# Altium schematic symbol library Standard.SchLib: 33 symbols
Pins are listed as number, name and electrical type; pins without a type are passive.

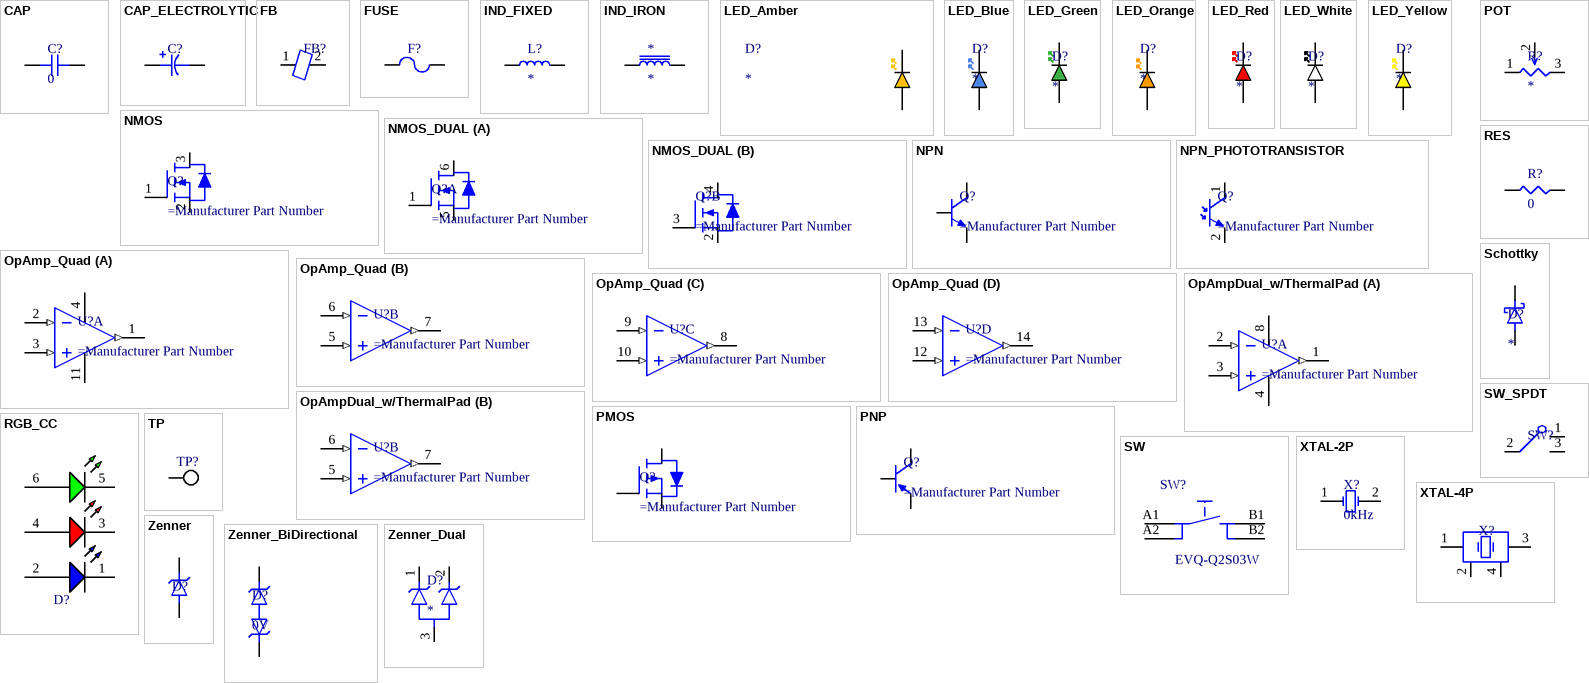
[diagram p0: symbols CAP to Zenner_Dual]

## CAP
designator C?, comment 0
Value: 0
pins: 1, 2

## CAP_ELECTROLYTIC
designator C?, comment 0  (value not drawn)
Value: 0
pins: 1, 2
text: +

## FB
designator FB?  (value not drawn)
pins: 1, 2

## FUSE
designator F?  (value not drawn)
pins: 1, 2

## IND_FIXED
designator L?
Value: *
pins: 1, 2

## IND_IRON
designator *
pins: 1, 2

## LED_Amber
designator D?
pins: 1 Cathode, 2 Anode

## LED_Blue
designator D?
pins: 1 Cathode, 2 Anode

## LED_Green
designator D?
pins: 1 Cathode, 2 Anode

## LED_Orange
designator D?
pins: 1 Cathode, 2 Anode

## LED_Red
designator D?
pins: 1 Cathode, 2 Anode

## LED_White
designator D?
pins: 1 Cathode, 2 Anode

## LED_Yellow
designator D?
pins: 1 Cathode, 2 Anode

## NMOS
designator Q?
pins: 1 Gate, 2 Source, 3 Drain
1 alternate drawing of the same symbol

## NMOS_DUAL
designator Q?
part A pins: 1 Gate, 5 Source, 6 Drain
part B pins: 2 Source, 3 Gate, 4 Drain
1 alternate drawing of the same symbol

## NPN
designator Q?
pins: 1 EMITTER, 2 BASE, 3 COLLECTOR

## NPN_PHOTOTRANSISTOR
designator Q?
pins: 1 COLLECTOR, 2 EMITTER

## OpAmp_Quad
designator U?
part A pins: 1 OUTA (out), 2 -INA (in), 3 +INA (in), 4 VDD (power), 11 VSS (power)
part B pins: 5 +INB (in), 6 -INB (in), 7 OUTB (out)
part C pins: 8 OUTB (out), 9 -INB (in), 10 +INB (in)
part D pins: 12 +INB (in), 13 -INB (in), 14 OUTB (out)
1 alternate drawing of the same symbol

## OpAmpDual_w/ThermalPad
designator U?
part A pins: 1 OUTA (out), 2 -INA (in), 3 +INA (in), 4 VSS (power), 8 VDD (power)
part B pins: 5 +INB (in), 6 -INB (in), 7 OUTB (out)
1 alternate drawing of the same symbol

## PMOS
designator Q?
pins: 1 Source, 2 Gate, 3 Drain
2 alternate drawings of the same symbol

## PNP
designator Q?
pins: 1 EMITTER, 2 BASE, 3 COLLECTOR

## POT
designator R?
pins: 1 CCW, 2 Wiper, 3 CW

## RES
designator R?, comment 0
Value: 0
pins: 1, 2

## RGB_CC
designator D?, comment Red & Green & Blue, 120°  (value not drawn)
WL-SFTW Full-color TOP LED Waterclear, size 3528, Red & Green & Blue, 120°; Manufacturer Part Number: 150352M173300; Manufacturer: Wurth Elektronik; Case/Size Code: 3528; Chip Technology: AlInGaP + InGaN; Dominant Wavelength (Blue): 470nm; Dominant Wavelength (Green): 520nm; Dominant Wavelength (Red): 625nm; Forward Voltage (Blue): 3.2V; Forward Voltage (Red): 2V; Luminous Intensity (Blue): 230mcd; Luminous Intensity (Green): 950mcd; Luminous Intensity (Red): 270mcd; Peak Wavelength (Blue): 465nm; Peak Wavelength (Green): 515nm; Peak Wavelength (Red): 635nm; Category: Signal LEDs; Match Code: WL-SFTW; ComponentLink1Description: Website Link; ComponentLink1URL: https://www.we-online.com/redexpert/article/150141M173100?ad; ComponentLink2Description: Datasheet Link; ComponentLink2URL: https://www.we-online.com/redexpert/spec/150141M173100?ad; Mount: Surface Mount; Operating Temperature Max: 85°C; Operating Temperature Min: -40°C; Packaging: Tape and Reel; Length: 3.5mm; Width: 2.8mm; Height: 1.9mm; Emitting Color: Red & Green & Blue; Forward Voltage (Green): 3.2V; Viewing Angle: 120°
footprint WL-SFTW_3528_150141M173100
pins: 1 K, 2 A, 3 K, 4 A, 5 K, 6 A

## Schottky
designator D?
pins: 1, 2

## SW
designator SW?, comment EVQ-Q2S03W
Switch Tactile N.O. SPST Round Button J-Bend 0.02A 15VDC 1.6N SMD T/R; Manufacturer_Name: Panasonic; Geometry.Height: 3.3mm; Mouser Part Number: 667-EVQ-Q2S03W; Mouser Price/Stock: https://www.mouser.co.uk/ProductDetail/Panasonic/EVQ-Q2S03W?qs=WwqriLBepZso3gwmd6qd3A%3D%3D; Manufacturer_Part_Number: EVQ-Q2S03W; Datasheet Link: https://componentsearchengine.com/Datasheets/1/EVQ-Q2S03W.pdf
footprint EVQQ2S03W
pins: A1 COM_1, A2 COM_2, B1 NO_1, B2 NO_2

## SW_SPDT
designator SW?  (value not drawn)
pins: 1, 2 13, 3 14

## TP
designator TP?  (value not drawn)
footprint TP-SS_CIR (Circular Exposed Pad 1.27mm Test Point Single Side)
footprint TP-SS_OCT (Octogon Exposed Pad 1.27mm Test Point Single Side)
footprint TP-SS_RECT (Circular Exposed Pad 1.27mm Test Point Single Side)
pins: 1

## XTAL-2P
designator X?, comment 0kHz
Value: 0kHz
pins: 1, 2

## XTAL-4P
designator X?, comment 0kHz  (value not drawn)
Value: 0kHz
pins: 1, 2, 3, 4
1 alternate drawing of the same symbol

## Zenner
designator D?
pins: 1, 2

## Zenner_BiDirectional
designator D?, comment 0V
Clamping Voltage: 0V
pins: 1, 2

## Zenner_Dual
designator D?
pins: 1, 2, 3